# Altium schematic symbol library IMU 10DOF.SchLib: 1 symbol
Pins are listed as number, name and electrical type; pins without a type are passive.

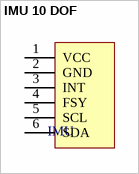
[diagram p0: symbol IMU 10 DOF]

## IMU 10 DOF
designator IMU, comment IMU_10-DOF  (value not drawn)
Module
footprint IMU 10-DOF v1.1
footprint IMU 10-DOF v1.0
pins: 1 VCC, 2 GND, 3 INT, 4 FSY, 5 SCL, 6 SDA